# Altium footprint library 0436500215.PcbLib: 1 footprints
Each footprint in its own frame and in the unit in brackets; x right, y up, seen from the top. Pads: shape width x height; smd on the part's side, far side on the other; paste and mask are expansions set on the pad; w line width, h text height; cw(c..) or ccw(c..) is an arc to the next point about the centre after c.
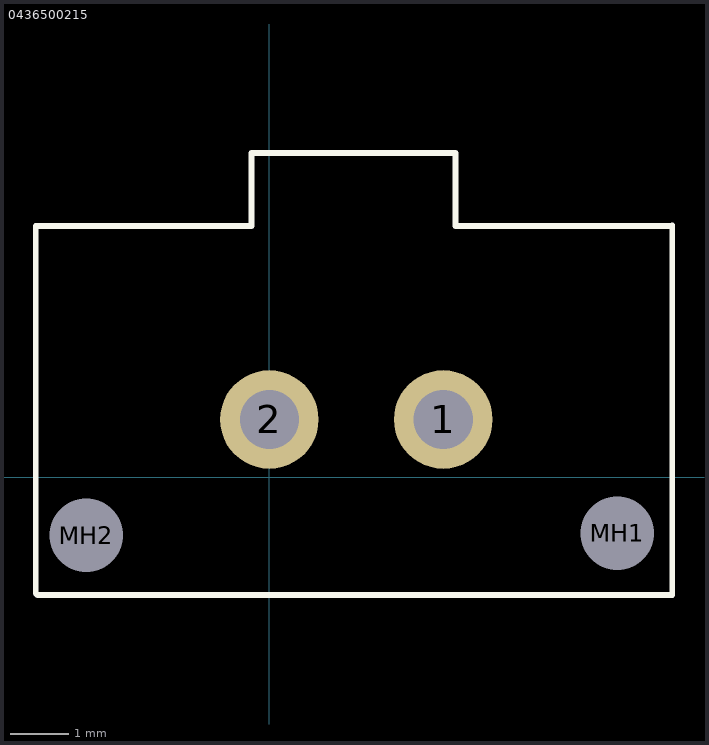
[diagram p0: the footprint, top view; thin cyan lines are the x and y axes]

## 0436500215 [mm]
pads (4):
  round 1.7 hole 1.02: 1(3,1) 2(0,1)
  round 1 hole 1.27 unplated: MH1(6,-0.96) MH2(-3.16,-1)
Top Overlay:
  lines w0.1: -4.03,-2 -4,-2.03 6.95,-2.03 6.95,-1.59 6.95,4.35 6.94,4.34 3.95,4.34 3.21,4.34 3.21,5.6 -0.31,5.6 -0.31,4.34 -1.138,4.34 -3.83,4.34 -4.03,4.34 -4.03,-1.69 -4.03,-2
3D body "436500215.stp": height 9.9, standoff -3.18, extent -3.44,-1.455 6.21,4.15